# Altium schematic symbol library Tfinal.SchLib: 7 symbols
Pins are listed as number, name and electrical type; pins without a type are passive.

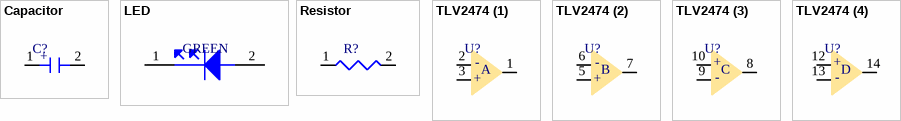
[diagram p0: symbols Capacitor to TLV2474 (4)]

## Capacitor
designator C?  (value not drawn)
pins: 1, 2
text: +

## LED
designator GREEN  (value not drawn)
pins: 1, 2

## Resistor
designator R?  (value not drawn)
pins: 1, 2

## TLV2474 (1)
designator U?  (value not drawn)
pins: 1, 2, 3
text: -; A; +

## TLV2474 (2)
designator U?  (value not drawn)
pins: 5, 6, 7
text: -; B; +

## TLV2474 (3)
designator U?  (value not drawn)
pins: 8, 9, 10
text: +; C; -

## TLV2474 (4)
designator U?  (value not drawn)
pins: 12, 13, 14
text: +; D; -